# Altium schematic symbol library TX4138.SchLib: 1 symbol
Pins are listed as number, name and electrical type; pins without a type are passive.

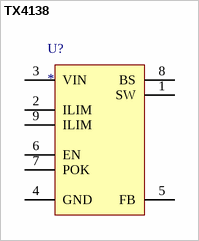
[diagram p0: symbol TX4138]

## TX4138
designator U?
4A, 60V, 200KHz Step-Down Converter
footprint TX4138
pins: 1 SW, 2 ILIM, 3 VIN, 4 GND, 5 FB, 6 EN, 7 POK, 8 BS, 9 ILIM